# Altium footprint library FUSE_3544-2.PcbLib: 1 footprints
Each footprint in its own frame and in the unit in brackets; x right, y up, seen from the top. Pads: shape width x height; smd on the part's side, far side on the other; paste and mask are expansions set on the pad; w line width, h text height; cw(c..) or ccw(c..) is an arc to the next point about the centre after c.
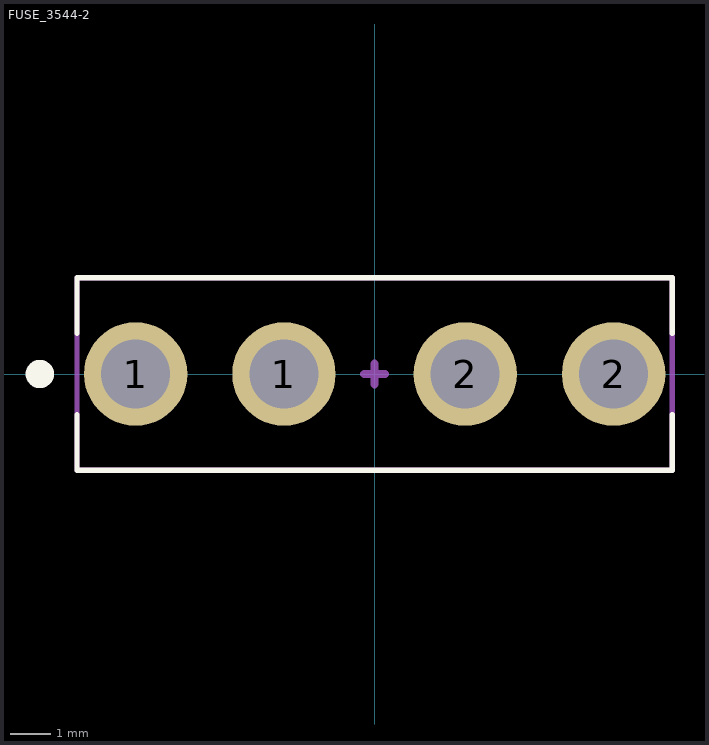
[diagram p0: the footprint, top view; thin cyan lines are the x and y axes]

## FUSE_3544-2 [mm]
height 9.02
pads (4):
  round 2.55 hole 1.7: 1(-5.895,0) 1(-2.235,0) 2(2.235,0) 2(5.895,0)
Top Overlay:
  circle w0.5: c-8.255,0 r0.1
  lines w0.127: -7.34,-1 -7.34,-2.375 7.34,-2.375 7.34,-1 ; -7.34,1 -7.34,2.375 7.34,2.375 7.34,1
Mechanical 13:
  lines w0.127: -7.34,-2.375 7.34,-2.375 ; -7.34,-2.375 7.34,-2.375 ; -7.34,-2.375 -7.34,2.375 ; -7.34,2.375 7.34,2.375 ; -7.34,2.375 7.34,2.375 ; 7.34,-2.375 7.34,2.375
Mechanical 15 (Mech15):
  lines w0.2: 0,-0.254 0,0 ; 0,0 0.254,0 0,0 ; 0,0 -0.254,0 0,0 ; 0,0 0,0.254 0,0
3D body "3544-2--3DModel-STEP-630548.STEP": height 8.72, standoff -2.46, extent -7.349,-2.355 7.332,2.395